# Altium schematic symbol library LM3674.SchLib: 1 symbol
Pins are listed as number, name and electrical type; pins without a type are passive.

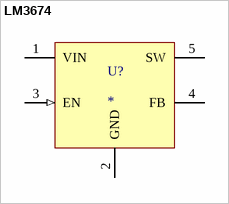
[diagram p0: symbol LM3674]

## LM3674
designator U?
5V STEP DOWN CONV, 600MA, POWERWISE
footprint LM3674MF-ADJ (SOT23, 5-Leads, Body 3.0x3.0mm (max), Pitch 0.95mm, IPC Medium Density)
pins: 1 VIN (power), 2 GND (power), 3 EN (in), 4 FB, 5 SW (power)